# Altium footprint library AudioJack_3.5mm.PcbLib: 1 footprints
Each footprint in its own frame and in the unit in brackets; x right, y up, seen from the top. Pads: shape width x height; smd on the part's side, far side on the other; paste and mask are expansions set on the pad; w line width, h text height; cw(c..) or ccw(c..) is an arc to the next point about the centre after c.
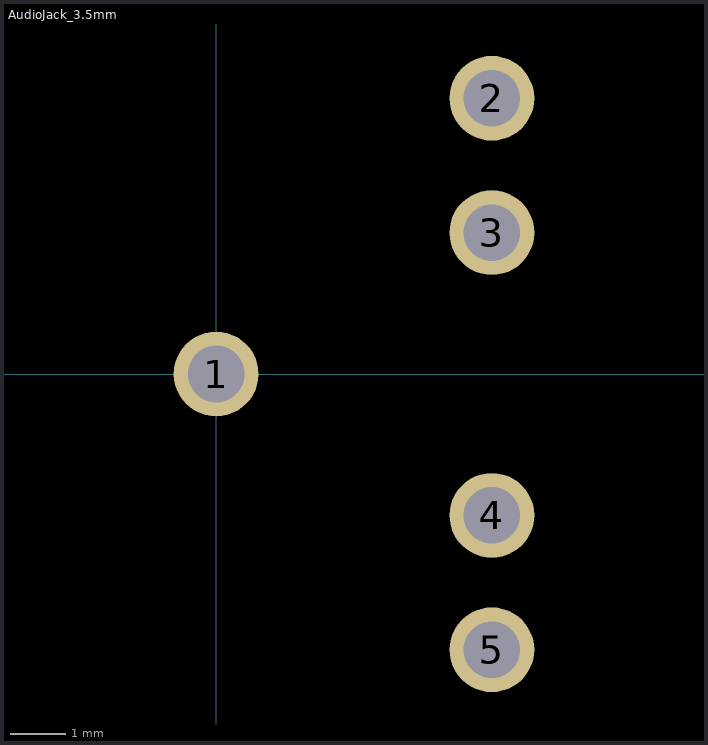
[diagram p0: the footprint, top view; thin cyan lines are the x and y axes]

## AudioJack_3.5mm [mil]
pads (5):
  round 60 hole 40: 1(0,0) 2(195,195) 3(195,100) 4(195,-100) 5(195,-195)